# EAGLE library part ADTT1-6+ (library ICs)
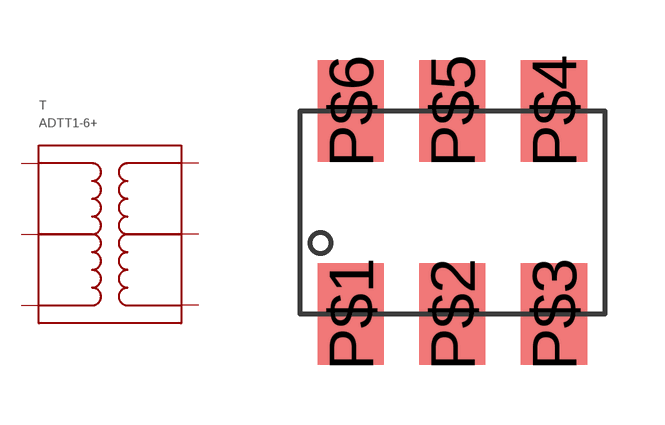
[diagram p2: symbol with the pads of CD637; footprint CD637]

Designator prefix T

## ADTT1-6+  [CD637]
P$1  P$1  pas
P$2  P$2  pas
P$3  P$3  pas
P$4  P$4  pas
P$5  P$5  pas
P$6  P$6  pas

## Footprint CD637 (pad centres in mm)
smd 1.651 x 2.54: P$1 -2.54,-2.54; P$2 0,-2.54; P$3 2.54,-2.54; P$4 2.54,2.54; P$5 0,2.54; P$6 -2.54,2.54